# EAGLE library part 4053 (library greg-IC)
Triple 2-channel ANALOG MULTIPLEXER
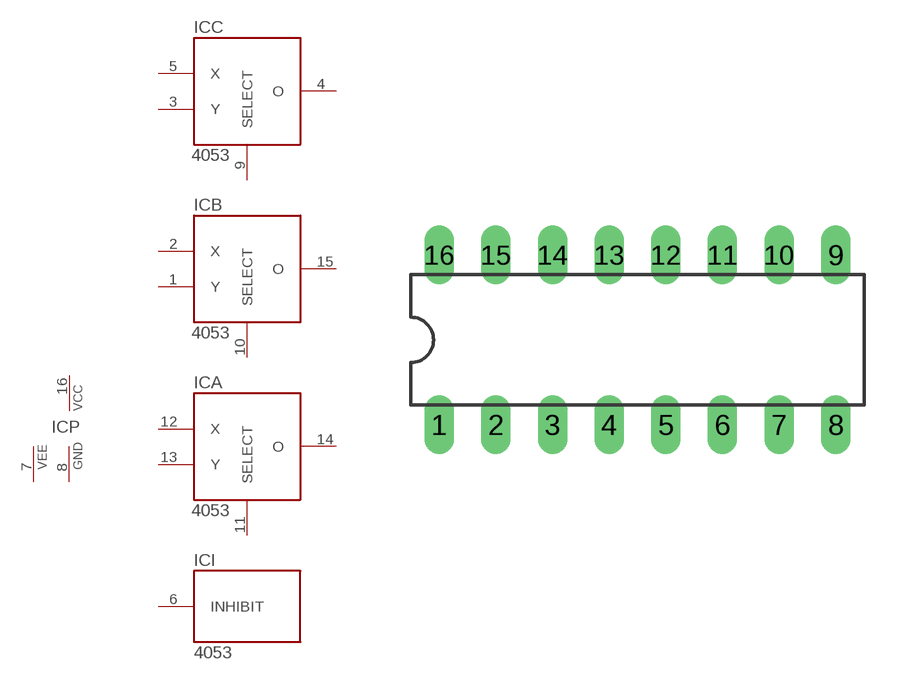
[diagram p19: symbol with the pads of DIL16; footprint DIL16]

Designator prefix IC; gates P=PWR+VEE A=MUX_2_1 B=MUX_2_1 C=MUX_2_1 I=INHIBIT

## 4053B  [DIL16]
1  B:Y
2  B:X
3  C:Y
4  C:O
5  C:X
6  I:INHIBIT
7  P:VEE  pwr
8  P:GND  pwr
9  C:SELECT
10  B:SELECT
11  A:SELECT
12  A:X
13  A:Y
14  A:O
15  B:O
16  P:VCC  pwr

## Footprint DIL16 (pad centres in mm)
Dual In Line Package
drill 0.813 long: 1 -8.89,-3.81; 2 -6.35,-3.81; 3 -3.81,-3.81; 4 -1.27,-3.81; 5 1.27,-3.81; 6 3.81,-3.81; 7 6.35,-3.81; 8 8.89,-3.81; 9 8.89,3.81; 10 6.35,3.81; 11 3.81,3.81; 12 1.27,3.81; 13 -1.27,3.81; 14 -3.81,3.81; 15 -6.35,3.81; 16 -8.89,3.81